# Altium footprint library drive.PcbLib: 35 footprints (part 2 of 3)
Each footprint in its own frame and in the unit in brackets; x right, y up, seen from the top. Pads: shape width x height; smd on the part's side, far side on the other; paste and mask are expansions set on the pad; w line width, h text height; cw(c..) or ccw(c..) is an arc to the next point about the centre after c.
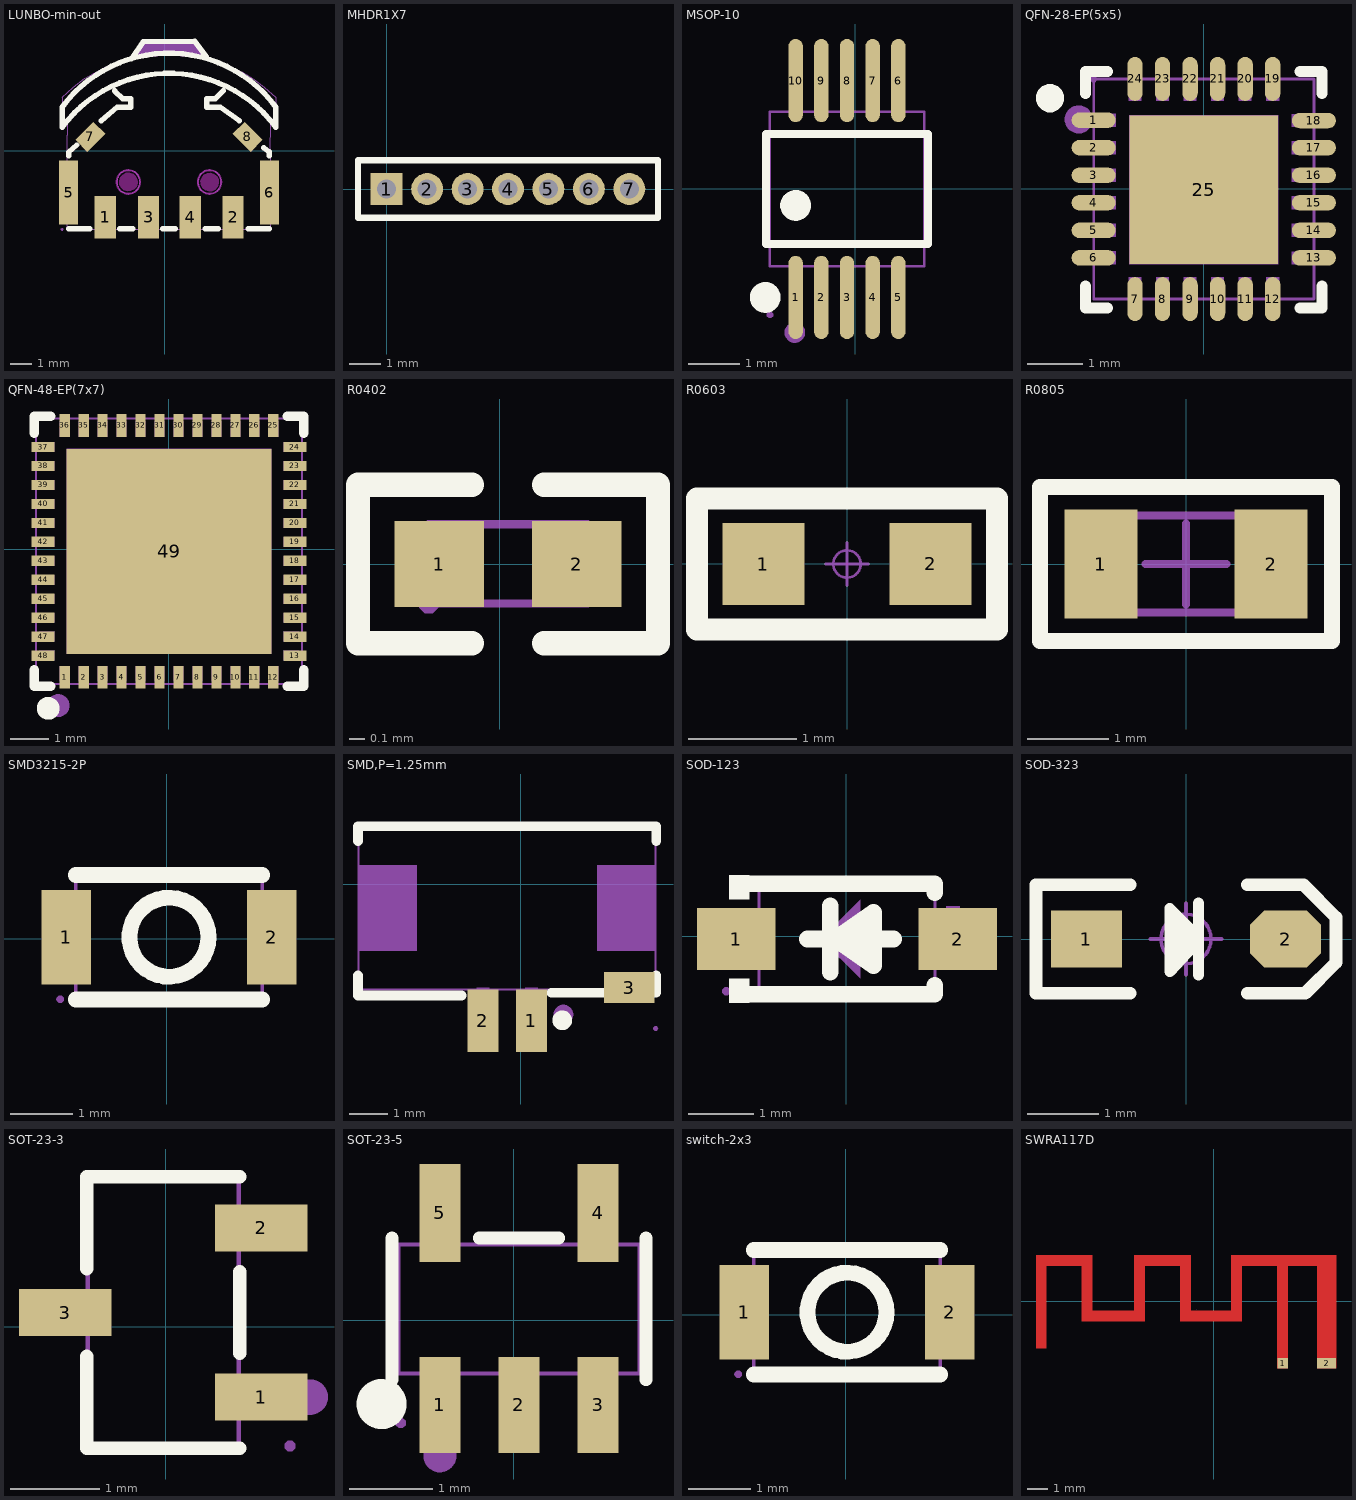
[diagram p1: the footprints below, top view; thin cyan lines are the x and y axes]

## LUNBO-min-out [mm]
pads (8):
  rect 1x2 smd: 1(-2.788,-3.115) 2(3.197,-3.115) 3(-0.762,-3.115) 4(1.197,-3.115)
  rect 0.9x3 smd: 5(-4.503,-1.964) 6(4.897,-1.964)
  rect 1.2x0.8 smd rot 45: 7(-3.483,0.646)
  rect 1.2x0.8 smd rot 135: 8(3.877,0.646)
Top Overlay:
  lines w0.25: -4.803,1.103 -4.803,2.031 ; -4.803,2.047 cw(c0.197,-1.652) 5.197,2.047 5.197,1.103 ; -4.802,1.103 cw(c0.198,-2.596) 5.198,1.103 ; -1.019,5.087 -1.556,4.31 -1.019,5.1 1.41,5.12 1.95,4.405
  lines w0.254: -4.503,-3.662 -3.503,-3.662 ; -4.502,-0.241 -4.502,-0.058 -4.121,0.267 ; -2.981,1.409 -2.219,2.044 -1.584,2.044 -1.584,2.425 -1.965,2.425 -2.346,2.806 ; -2.103,-3.662 -1.503,-3.662 ; -0.103,-3.662 0.497,-3.662 ; 1.897,-3.662 2.497,-3.662 ; 2.734,2.806 2.353,2.425 1.972,2.425 1.972,2.044 2.607,2.044 3.496,1.409 ; 3.897,-3.662 4.897,-3.662 ; 4.642,0.14 4.896,-0.058 4.896,-0.241
Keep-Out Layer:
  board cut-out: -1.274,-1.43 -1.281,-1.344 -1.358,-1.192 -1.488,-1.081 -1.651,-1.028 -1.821,-1.042 -1.973,-1.119 -2.084,-1.249 -2.137,-1.411 -2.13,-1.497 -2.124,-1.582 -2.046,-1.734 -1.916,-1.845 -1.754,-1.898 -1.584,-1.885 -1.431,-1.807 -1.32,-1.677 -1.267,-1.515
  board cut-out: 2.529,-1.44 2.523,-1.355 2.445,-1.202 2.315,-1.091 2.153,-1.039 1.982,-1.052 1.83,-1.129 1.719,-1.259 1.666,-1.422 1.673,-1.507 1.68,-1.592 1.757,-1.744 1.887,-1.855 2.049,-1.908 2.22,-1.895 2.372,-1.817 2.483,-1.688 2.536,-1.525
Keep-Out Layer:
  circle w0.025: c2.097,-1.464 r0.55
  circle w0.025: c-1.703,-1.464 r0.55
  circle w0.1: c2.097,-1.464 r0.55
  circle w0.1: c-1.703,-1.464 r0.55
Mechanical 1:
  circle w0.025: c2.097,-1.464 r0.55
  circle w0.025: c-1.703,-1.464 r0.55
Mechanical 6:
  region: -1.413,4.366 0.2,4.437 1.767,4.366 1.315,5.205 -0.947,5.198
Mechanical 15:
  region: -4.746,-3.682 -4.747,-3.658 -4.782,-3.624 -4.83,-3.624 -4.865,-3.658 -4.866,-3.682 -4.865,-3.706 -4.83,-3.739 -4.782,-3.739 -4.747,-3.706
  region: 2.872,-2.982 3.522,-2.982 3.522,-3.682 2.872,-3.682
  region: 0.872,-2.982 1.522,-2.982 1.522,-3.682 0.872,-3.682
  region: -1.128,-2.982 -0.478,-2.982 -0.478,-3.682 -1.128,-3.682
  region: -3.128,-2.982 -2.478,-2.982 -2.478,-3.682 -3.128,-3.682
  region: 4.637,-0.714 4.937,-0.714 4.937,-3.214 4.637,-3.214
  region: -4.557,-0.714 -4.257,-0.714 -4.257,-3.214 -4.557,-3.214
  region: 3.948,0.364 3.594,0.717 3.806,0.929 4.16,0.576
  region: -3.766,0.575 -3.412,0.929 -3.2,0.717 -3.554,0.363
  lines w0.051: -4.806,2.493 -4.804,1.501 -4.751,1.352 -4.565,1.344 -4.558,0.729 -4.558,-1.456 -4.558,-3.682 4.945,-3.667 4.939,-0.094 4.955,1.322 5.083,1.355 5.198,1.442 5.192,2.503 4.665,2.978 4.167,3.35 3.602,3.688 3.028,3.985 2.37,4.234 1.706,4.527 1.297,5.231 -0.926,5.22 -1.006,5.048 -1.276,4.515 -2.05,4.22 -2.619,3.999 -3.16,3.721 -3.743,3.387 -4.279,2.973 -4.806,2.493

## MHDR1X7 [mm]
pads (7):
  rect 1x1 hole 0.6: 1(0,0)
  round 1 hole 0.6: 2(1.27,0) 3(2.54,0) 4(3.81,0) 5(5.08,0) 6(6.35,0) 7(7.62,0)
Top Overlay:
  lines w0.2: -0.9,-0.9 -0.9,0.9 8.52,0.9 8.52,-0.9 -0.9,-0.9

## MSOP-10 [mm] "CH340x"
pads (10):
  oval 0.28x1.62 smd: 1(-1.163,-2.111) 2(-0.662,-2.111) 3(-0.163,-2.111) 4(0.338,-2.111) 5(0.837,-2.111) 6(0.837,2.109) 7(0.338,2.109) 8(-0.163,2.109) 9(-0.662,2.109) 10(-1.163,2.109)
Top Overlay:
  circle w0.3: c-1.163,-0.32 r0.15
  circle w0.3: c-1.755,-2.111 r0.15
  lines w0.152: -1.739,-1.072 -1.739,1.07 1.414,1.07 1.414,-1.072 -1.739,-1.072
Mechanical 6:
  circle w0.2: c-1.179,-2.795 r0.1
Mechanical 15:
  region: -1.602,-2.451 -1.603,-2.427 -1.638,-2.392 -1.687,-2.392 -1.722,-2.427 -1.722,-2.451 -1.722,-2.476 -1.687,-2.51 -1.638,-2.51 -1.603,-2.476
  region: -1.275,-2.451 -1.275,-1.901 -1.05,-1.901 -1.05,-2.451
  region: -1.275,-1.911 -1.275,-1.491 -1.05,-1.491 -1.05,-1.911
  region: -0.775,-2.451 -0.775,-1.901 -0.55,-1.901 -0.55,-2.451
  region: -0.775,-1.911 -0.775,-1.491 -0.55,-1.491 -0.55,-1.911
  region: -0.275,-2.451 -0.275,-1.901 -0.05,-1.901 -0.05,-2.451
  region: -0.275,-1.911 -0.275,-1.491 -0.05,-1.491 -0.05,-1.911
  region: 0.225,-2.451 0.225,-1.901 0.45,-1.901 0.45,-2.451
  region: 0.225,-1.911 0.225,-1.491 0.45,-1.491 0.45,-1.911
  region: 0.725,-2.451 0.725,-1.901 0.95,-1.901 0.95,-2.451
  region: 0.725,-1.911 0.725,-1.491 0.95,-1.491 0.95,-1.911
  region: -1.275,2.449 -1.275,1.899 -1.05,1.899 -1.05,2.449
  region: -1.275,1.909 -1.275,1.489 -1.05,1.489 -1.05,1.909
  region: -0.775,2.449 -0.775,1.899 -0.55,1.899 -0.55,2.449
  region: -0.775,1.909 -0.775,1.489 -0.55,1.489 -0.55,1.909
  region: -0.275,2.449 -0.275,1.899 -0.05,1.899 -0.05,2.449
  region: -0.275,1.909 -0.275,1.489 -0.05,1.489 -0.05,1.909
  region: 0.225,2.449 0.225,1.899 0.45,1.899 0.45,2.449
  region: 0.225,1.909 0.225,1.489 0.45,1.489 0.45,1.909
  region: 0.725,2.449 0.725,1.899 0.95,1.899 0.95,2.449
  region: 0.725,1.909 0.725,1.489 0.95,1.489 0.95,1.909
  lines w0.051: -1.663,-1.501 -1.663,1.499 1.337,1.499 1.337,-1.501 -1.663,-1.501

## QFN-28-EP(5x5) [mm] "CP2102N"
pads (25):
  oval 0.8x0.28 smd paste-100 mask+0.051: 1(-2,1.25) 2(-2,0.75) 3(-2,0.25) 4(-2,-0.25) 5(-2,-0.75) 6(-2,-1.25) 13(2,-1.25) 14(2,-0.75) 15(2,-0.25) 16(2,0.25) 17(2,0.75) 18(2,1.242)
  oval 0.28x0.8 smd paste-100 mask+0.051: 7(-1.25,-2) 8(-0.75,-2) 9(-0.25,-2) 10(0.25,-2) 11(0.75,-2) 12(1.25,-2) 19(1.25,2) 20(0.75,2) 21(0.25,2) 22(-0.25,2) 23(-0.75,2) 24(-1.25,2)
  rect 2.7x2.7 smd paste-100 mask+0.051: 25(0,-0.013)
Top Overlay:
  region: -2.792,1.397 -2.742,1.398 -2.649,1.437 -2.578,1.508 -2.539,1.602 -2.54,1.702 -2.578,1.796 -2.65,1.867 -2.743,1.905 -2.794,1.905 -2.844,1.905 -2.937,1.867 -3.009,1.796 -3.047,1.702 -3.048,1.602 -3.009,1.508 -2.938,1.437 -2.845,1.398 -2.795,1.397
  lines w0.2: -2.15,-1.763 -2.15,-2.163 -1.75,-2.163 ; -2.15,1.737 -2.15,2.137 -1.75,2.137 ; 1.75,-2.163 2.15,-2.163 2.15,-1.763 ; 1.75,2.137 2.15,2.137 2.15,1.737
Top Paste:
  drawing of 25 lines, arcs and shapes, not listed
Mechanical 6:
  circle w0.254: c-2.273,1.263 r0.127
Mechanical 15:
  region: 1.135,2 1.365,2 1.365,1.6 1.135,1.6
  region: 0.635,2 0.865,2 0.865,1.6 0.635,1.6
  region: 0.135,2 0.365,2 0.365,1.6 0.135,1.6
  region: -0.365,2 -0.135,2 -0.135,1.6 -0.365,1.6
  region: -0.865,2 -0.635,2 -0.635,1.6 -0.865,1.6
  region: -1.365,2 -1.135,2 -1.135,1.6 -1.365,1.6
  region: -1.6,1.365 -1.6,1.135 -2,1.135 -2,1.365
  region: -1.6,0.865 -1.6,0.635 -2,0.635 -2,0.865
  region: -1.6,0.365 -1.6,0.135 -2,0.135 -2,0.365
  region: -1.6,-0.135 -1.6,-0.365 -2,-0.365 -2,-0.135
  region: -1.6,-0.635 -1.6,-0.865 -2,-0.865 -2,-0.635
  region: -1.6,-1.135 -1.6,-1.365 -2,-1.365 -2,-1.135
  region: -1.365,-1.6 -1.135,-1.6 -1.135,-2 -1.365,-2
  region: -0.865,-1.6 -0.635,-1.6 -0.635,-2 -0.865,-2
  region: -0.365,-1.6 -0.135,-1.6 -0.135,-2 -0.365,-2
  region: 0.135,-1.6 0.365,-1.6 0.365,-2 0.135,-2
  region: 0.635,-1.6 0.865,-1.6 0.865,-2 0.635,-2
  region: 1.135,-1.6 1.365,-1.6 1.365,-2 1.135,-2
  region: 2,-1.138 2,-1.368 1.6,-1.368 1.6,-1.138
  region: 2,-0.635 2,-0.865 1.6,-0.865 1.6,-0.635
  region: 2,-0.135 2,-0.365 1.6,-0.365 1.6,-0.135
  region: 2,0.365 2,0.135 1.6,0.135 1.6,0.365
  region: 2,0.865 2,0.635 1.6,0.635 1.6,0.865
  region: 2,1.357 2,1.127 1.6,1.127 1.6,1.357
  region: -1.35,1.337 1.35,1.337 1.35,-1.363 -1.35,-1.363
  region: -1.94,2 -1.941,2.024 -1.976,2.057 -2.024,2.057 -2.059,2.024 -2.06,2 -2.059,1.976 -2.024,1.942 -1.976,1.942 -1.941,1.976
  lines w0.051: -2,-2 -2,2 2,2 2,-2 -2,-2

## QFN-48-EP(7x7) [mm] "esp32-pico-d4"
pads (49):
  rect 0.27x0.6 smd paste-100 mask+0.051: 1(-2.74,-3.375) 2(-2.24,-3.375) 3(-1.74,-3.375) 4(-1.24,-3.375) 5(-0.74,-3.375) 6(-0.24,-3.375) 7(0.26,-3.375) 8(0.76,-3.375) 9(1.26,-3.375) 10(1.76,-3.375) 11(2.26,-3.375) 12(2.76,-3.375) 25(2.76,3.266) 26(2.26,3.266) 27(1.76,3.266) 28(1.26,3.266) 29(0.76,3.266) 30(0.26,3.266) 31(-0.24,3.266) 32(-0.74,3.266) 33(-1.24,3.266) 34(-1.74,3.266) 35(-2.24,3.266) 36(-2.74,3.266)
  rect 0.6x0.27 smd paste-100 mask+0.051: 13(3.33,-2.805) 14(3.33,-2.304) 15(3.33,-1.805) 16(3.33,-1.304) 17(3.33,-0.805) 18(3.33,-0.304) 19(3.33,0.195) 20(3.33,0.696) 21(3.33,1.195) 22(3.33,1.696) 23(3.33,2.195) 24(3.33,2.696) 37(-3.31,2.696) 38(-3.31,2.195) 39(-3.31,1.696) 40(-3.31,1.195) 41(-3.31,0.696) 42(-3.31,0.195) 43(-3.31,-0.304) 44(-3.31,-0.805) 45(-3.31,-1.304) 46(-3.31,-1.805) 47(-3.31,-2.304) 48(-3.31,-2.805)
  rect 5.4x5.4 smd paste-100 mask+0.051: 49(0.01,-0.054)
Top Overlay:
  circle w0.3: c-3.175,-4.191 r0.15
  lines w0.254: -3.546,-3.171 -3.546,-3.61 -3.106,-3.61 ; -3.546,3.062 -3.546,3.502 -3.106,3.502 ; 3.126,-3.61 3.566,-3.61 3.566,-3.171 ; 3.126,3.502 3.566,3.502 3.566,3.062
Top Paste:
  drawing of 49 lines, arcs and shapes, not listed
Mechanical 6:
  circle w0.3: c-2.911,-4.118 r0.15
Mechanical 15:
  drawing of 54 lines, arcs and shapes, not listed

## R0402 [mm]
pads (2):
  rect 0.566x0.54 smd paste-100 mask+0.051: 1(-0.381,0) 2(0.485,0)
Top Overlay:
  lines w0.152: -0.174,-0.499 -0.892,-0.499 -0.892,0.499 -0.174,0.499 ; 0.278,-0.499 0.996,-0.499 0.996,0.499 0.278,0.499
Top Paste:
  region: -0.083,-0.23 -0.083,0.23 -0.123,0.27 -0.624,0.27 -0.664,0.23 -0.664,-0.23 -0.624,-0.27 -0.123,-0.27
  region: 0.187,-0.23 0.187,0.23 0.227,0.27 0.727,0.27 0.767,0.23 0.767,-0.23 0.727,-0.27 0.227,-0.27
Mechanical 15:
  region: -0.197,0.25 -0.197,-0.25 -0.447,-0.25 -0.447,0.25
  region: 0.303,-0.25 0.303,0.25 0.553,0.25 0.553,-0.25
  region: -0.388,-0.25 -0.388,-0.225 -0.423,-0.19 -0.473,-0.19 -0.508,-0.225 -0.508,-0.25 -0.508,-0.275 -0.473,-0.31 -0.423,-0.31 -0.388,-0.275
  lines w0.051: -0.448,-0.25 0.552,-0.25 0.552,0.25 -0.448,0.25 -0.448,-0.25

## R0603 [mil]
pads (2):
  rect 30x30 smd: 1(-30.59,0) 2(30.59,0)
Top Overlay:
  lines w8: -16,24 54.82,24 54.82,-24 -15,-24 -54.82,-24 -54.82,24 -15,24
Mechanical 15:
  circle w1: c0,0 r5
  lines w1: -7.87,0 7.87,0 ; 0,-7.87 0,7.87
3D body "R 0603.STEP": height 15.79, standoff -0.13, extent -31.49,-15.75 31.5,15.75

## R0805 [mm] "Chip Resistor, 2-Leads, Body 2.00x1.20mm, IPC Medium Density"
height 1
pads (2):
  rect 0.9x1.35 smd: 1(-1.05,0) 2(1.05,0)
Top Overlay:
  lines w0.2: -1.8,-0.95 -1.8,0.95 1.8,0.95 1.8,-0.95 -1.8,-0.95
Mechanical 13:
  lines w0.1: -1,-0.6 -1,0.6 1,0.6 1,-0.6 -1,-0.6
Mechanical 15:
  lines w0.05: -1.85,-1 -1.85,1 1.85,1 1.85,-1 -1.85,-1
  lines w0.1: -0.5,0 0.5,0 ; 0,-0.5 0,0.5
3D body "User Library-Res_Vishay_CRCW0805_2012.STEP": height 0.45, standoff 0, extent -1,-0.625 1,0.625

## SMD3215-2P [mm]
pads (2):
  rect 0.8x1.524 smd: 1(-1.613,0.026) 2(1.688,0.026)
Top Overlay:
  circle w0.254: c0.037,0.026 r0.635
  lines w0.254: -1.463,-0.974 1.537,-0.974 ; -1.463,1.026 1.537,1.026
Mechanical 15:
  region: -1.653,-0.974 -1.654,-0.95 -1.689,-0.916 -1.737,-0.916 -1.772,-0.95 -1.773,-0.974 -1.772,-0.998 -1.737,-1.032 -1.689,-1.032 -1.654,-0.998
  region: 1.487,0.676 1.787,0.676 1.787,-0.624 1.487,-0.624
  region: -1.713,0.676 -1.413,0.676 -1.413,-0.624 -1.713,-0.624
  lines w0.051: -1.463,-0.974 -1.463,1.026 1.537,1.026 1.537,-0.974 -1.463,-0.974

## SMD,P=1.25mm [mm] "Molex 532610271"
pads (3):
  rect 0.8x1.6 smd: 1(0.278,-3.518) 2(-0.972,-3.518)
  rect 1.3x0.8 smd: 3(2.794,-2.667)
Top Overlay:
  circle w0.254: c1.073,-3.508 r0.127
  lines w0.254: -4.187,-2.349 -4.187,-2.868 -1.517,-2.868 ; -4.187,1.113 -4.187,1.492 3.493,1.492 3.493,1.113 ; 0.793,-2.798 3.493,-2.798 3.493,-2.349
Mechanical 6:
  circle w0.254: c1.103,-3.358 r0.127
Mechanical 15:
  region: 1.978,0.482 3.478,0.482 3.478,-1.718 1.978,-1.718
  region: -4.172,0.482 -2.672,0.482 -2.672,-1.718 -4.172,-1.718
  region: 0.438,-2.668 0.438,-3.368 0.118,-3.368 0.118,-2.668
  region: -0.812,-2.668 -0.812,-3.368 -1.132,-3.368 -1.132,-2.668
  region: 0.118,-3.318 0.438,-3.318 0.438,-3.718 0.118,-3.718
  region: -1.132,-3.318 -0.812,-3.318 -0.812,-3.718 -1.132,-3.718
  region: 3.538,-3.718 3.537,-3.694 3.502,-3.66 3.454,-3.66 3.419,-3.694 3.418,-3.718 3.419,-3.742 3.454,-3.776 3.502,-3.776 3.537,-3.742
  lines w0.051: -4.172,-2.718 -4.172,1.482 3.478,1.482 3.478,-2.718 -4.172,-2.718

## SOD-123 [mm] "MBR0530"
pads (2):
  rect 1.2x0.95 smd: 1(-1.686,-0.039) 2(1.714,-0.039)
Top Overlay:
  region: 0.42,-0.445 0.42,0.367 -0.164,-0.039
  region: -1.488,0.938 -1.488,0.568 -1.792,0.568 -1.792,0.938
  region: -1.488,-1.016 -1.488,-0.646 -1.792,-0.646 -1.792,-1.016
  lines w0.254: -1.63,0.81 -1.629,0.811 -1.332,0.811 1.36,0.811 1.36,0.667 ; -1.625,-0.888 -1.624,-0.889 -1.332,-0.889 1.36,-0.889 1.36,-0.745 ; -0.596,-0.039 -0.266,-0.039 ; -0.24,-0.547 -0.24,0.469 ; 0.42,-0.039 0.734,-0.039 ; -0.164,-0.039 0.42,0.367 0.42,-0.445 -0.164,-0.039
Mechanical 6:
  region: 1.204,0.173 2.046,0.173 2.046,-0.034 1.203,-0.034
  region: 1.539,-0.377 1.539,0.465 1.746,0.465 1.746,-0.378
  region: -2.028,0.085 -1.186,0.085 -1.186,-0.122 -2.028,-0.122
  region: -0.386,-0.039 0.214,-0.639 0.214,0.561
Mechanical 15:
  region: -1.776,-0.839 -1.776,-0.814 -1.811,-0.779 -1.861,-0.779 -1.896,-0.814 -1.896,-0.839 -1.896,-0.864 -1.861,-0.899 -1.811,-0.899 -1.776,-0.864
  region: -1.496,-0.314 -1.496,0.236 -1.326,0.236 -1.326,-0.314
  region: -1.836,-0.314 -1.836,0.236 -1.486,0.236 -1.486,-0.314
  region: 1.354,-0.314 1.354,0.236 1.524,0.236 1.524,-0.314
  region: 1.514,-0.314 1.514,0.236 1.864,0.236 1.864,-0.314
  lines w0.051: -1.336,-0.839 -1.336,0.761 1.364,0.761 1.364,-0.839 -1.336,-0.839

## SOD-323 [mm] "1N4148"
pads (2):
  rect 1x0.8 smd: 1(-1.4,0)
  oct 1x0.8 smd: 2(1.4,0)
Top Overlay:
  lines w0.152: 0.178,-0.508 0.178,0.508 ; 0.178,-0.025 -0.229,-0.457 -0.229,0.432 0.178,0.025
  lines w0.178: -0.787,-0.762 -2.108,-0.762 -2.108,0.762 -0.787,0.762 ; 0.864,-0.762 1.676,-0.762 2.108,-0.33 2.108,0.305 1.651,0.762 0.864,0.762
  lines w0.254: -0.127,0.254 -0.152,-0.178 0.025,-0.025 -0.025,0.127
Mechanical 15:
  circle w0.05: c0,0 r0.35
  lines w0.05: -0.5,0 0.5,0 ; 0,-0.5 0,0.5
3D body "SOD-323.STEP": height 1, standoff 0.04, extent -1.337,-0.631 1.311,0.669

## SOT-23-3 [mm] "CJ2301 P-MOS, S8050 三极管"
pads (3):
  rect 1.037x0.532 smd: 1(1.07,-0.787) 2(1.07,1.113) 3(-1.132,0.163)
Top Overlay:
  lines w0.152: -0.89,-0.332 -0.89,-1.363 0.828,-1.363 ; -0.89,0.657 -0.89,1.689 0.828,1.689 ; 0.828,-0.293 0.828,0.618
Mechanical 6:
  circle w0.2: c1.619,-0.787 r0.1
Mechanical 15:
  region: 1.454,-1.337 1.454,-1.312 1.419,-1.277 1.369,-1.277 1.334,-1.312 1.334,-1.337 1.334,-1.362 1.369,-1.397 1.419,-1.397 1.454,-1.362
  region: -1.041,-0.025 -1.041,0.35 -0.846,0.35 -0.846,-0.025
  region: -1.456,-0.025 -1.456,0.35 -1.031,0.35 -1.031,-0.025
  region: 0.784,0.925 0.784,1.3 0.979,1.3 0.979,0.925
  region: 0.969,0.925 0.969,1.3 1.394,1.3 1.394,0.925
  region: 0.784,-0.975 0.784,-0.6 0.979,-0.6 0.979,-0.975
  region: 0.969,-0.975 0.969,-0.6 1.394,-0.6 1.394,-0.975
  lines w0.051: -0.881,-1.337 0.819,-1.337 0.819,1.663 -0.881,1.663 -0.881,-1.337

## SOT-23-5 [mm] "TP4054,ME6211C33M5G-N"
pads (5):
  rect 0.49x1.157 smd: 1(-0.889,-1.016) 2(0.061,-1.016) 3(1.011,-1.016)
  rect 0.49x1.175 smd: 4(1.011,1.291) 5(-0.889,1.291)
Top Overlay:
  circle w0.3: c-1.59,-1.005 r0.15
  lines w0.152: -1.465,-0.714 -1.465,0.989 ; -0.415,0.989 0.537,0.989 ; 1.587,-0.714 1.587,0.989
Mechanical 6:
  circle w0.2: c-0.889,-1.625 r0.1
Mechanical 15:
  region: -1.064,-1.262 -1.064,-0.862 -0.714,-0.862 -0.714,-1.262
  region: -1.064,-0.872 -1.064,-0.602 -0.714,-0.602 -0.714,-0.872
  region: -0.114,-1.262 -0.114,-0.862 0.236,-0.862 0.236,-1.262
  region: -0.114,-0.872 -0.114,-0.602 0.236,-0.602 0.236,-0.872
  region: 0.836,-1.262 0.836,-0.862 1.186,-0.862 1.186,-1.262
  region: 0.836,-0.872 0.836,-0.602 1.186,-0.602 1.186,-0.872
  region: 0.836,1.138 0.836,1.538 1.186,1.538 1.186,1.138
  region: 0.836,0.878 0.836,1.148 1.186,1.148 1.186,0.878
  region: -1.064,1.138 -1.064,1.538 -0.714,1.538 -0.714,1.138
  region: -1.064,0.878 -1.064,1.148 -0.714,1.148 -0.714,0.878
  region: -1.299,-1.232 -1.3,-1.208 -1.335,-1.174 -1.384,-1.174 -1.419,-1.208 -1.419,-1.232 -1.419,-1.257 -1.384,-1.291 -1.335,-1.291 -1.3,-1.257
  lines w0.051: -1.389,-0.637 -1.389,0.913 1.511,0.913 1.511,-0.637 -1.389,-0.637

## switch-2x3 [mm]
pads (2):
  rect 0.8x1.524 smd: 1(-1.632,0.044) 2(1.669,0.044)
Top Overlay:
  circle w0.254: c0.018,0.044 r0.635
  lines w0.254: -1.482,-0.956 1.518,-0.956 ; -1.482,1.044 1.518,1.044
Mechanical 15:
  region: -1.731,0.694 -1.432,0.694 -1.432,-0.606 -1.731,-0.606
  region: 1.469,0.694 1.769,0.694 1.769,-0.606 1.469,-0.606
  region: -1.672,-0.956 -1.672,-0.932 -1.707,-0.898 -1.756,-0.898 -1.791,-0.932 -1.791,-0.956 -1.791,-0.98 -1.756,-1.014 -1.707,-1.014 -1.672,-0.98
  lines w0.051: -1.482,-0.956 1.518,-0.956 1.518,1.044 -1.482,1.044 -1.482,-0.956

## SWRA117D [mm] "天线"
pads (2):
  rect 0.5x0.5 smd paste+0 mask+0.051: 1(3.288,-2.967)
  rect 0.9x0.5 smd paste+0 mask+0.051: 2(5.388,-2.967)
Top Layer:
  region: 3.538,1.683 3.538,-3.217 3.038,-3.217 3.038,1.683
  region: 5.838,1.683 5.838,-3.217 4.938,-3.217 4.938,1.683
  region: 5.838,2.183 5.838,1.683 0.838,1.683 0.838,2.183
  region: 1.338,1.683 1.338,-0.957 0.838,-0.957 0.838,1.683
  region: 0.838,-0.457 0.838,-0.957 -1.162,-0.957 -1.162,-0.457
  region: -1.112,1.683 -1.112,-0.957 -1.612,-0.957 -1.612,1.683
  region: -1.112,2.183 -1.112,1.683 -3.812,1.683 -3.812,2.183
  region: -3.312,1.683 -3.312,-0.957 -3.812,-0.957 -3.812,1.683
  region: -3.812,-0.457 -3.812,-0.957 -5.812,-0.957 -5.812,-0.457
  region: -5.812,1.683 -5.812,-0.957 -6.312,-0.957 -6.312,1.683
  region: -5.812,2.183 -5.812,1.683 -8.512,1.683 -8.512,2.183
  region: -8.012,1.683 -8.012,-2.257 -8.512,-2.257 -8.512,1.683
Mechanical 15:
  lines w0.003: -0.829,-0.391 -0.829,-0.39